# Altium footprint library relay.PCBLIB: 291 footprints (part 2 of 19)
Each footprint in its own frame and in the unit in brackets; x right, y up, seen from the top. Pads: shape width x height; smd on the part's side, far side on the other; paste and mask are expansions set on the pad; w line width, h text height; cw(c..) or ccw(c..) is an arc to the next point about the centre after c.
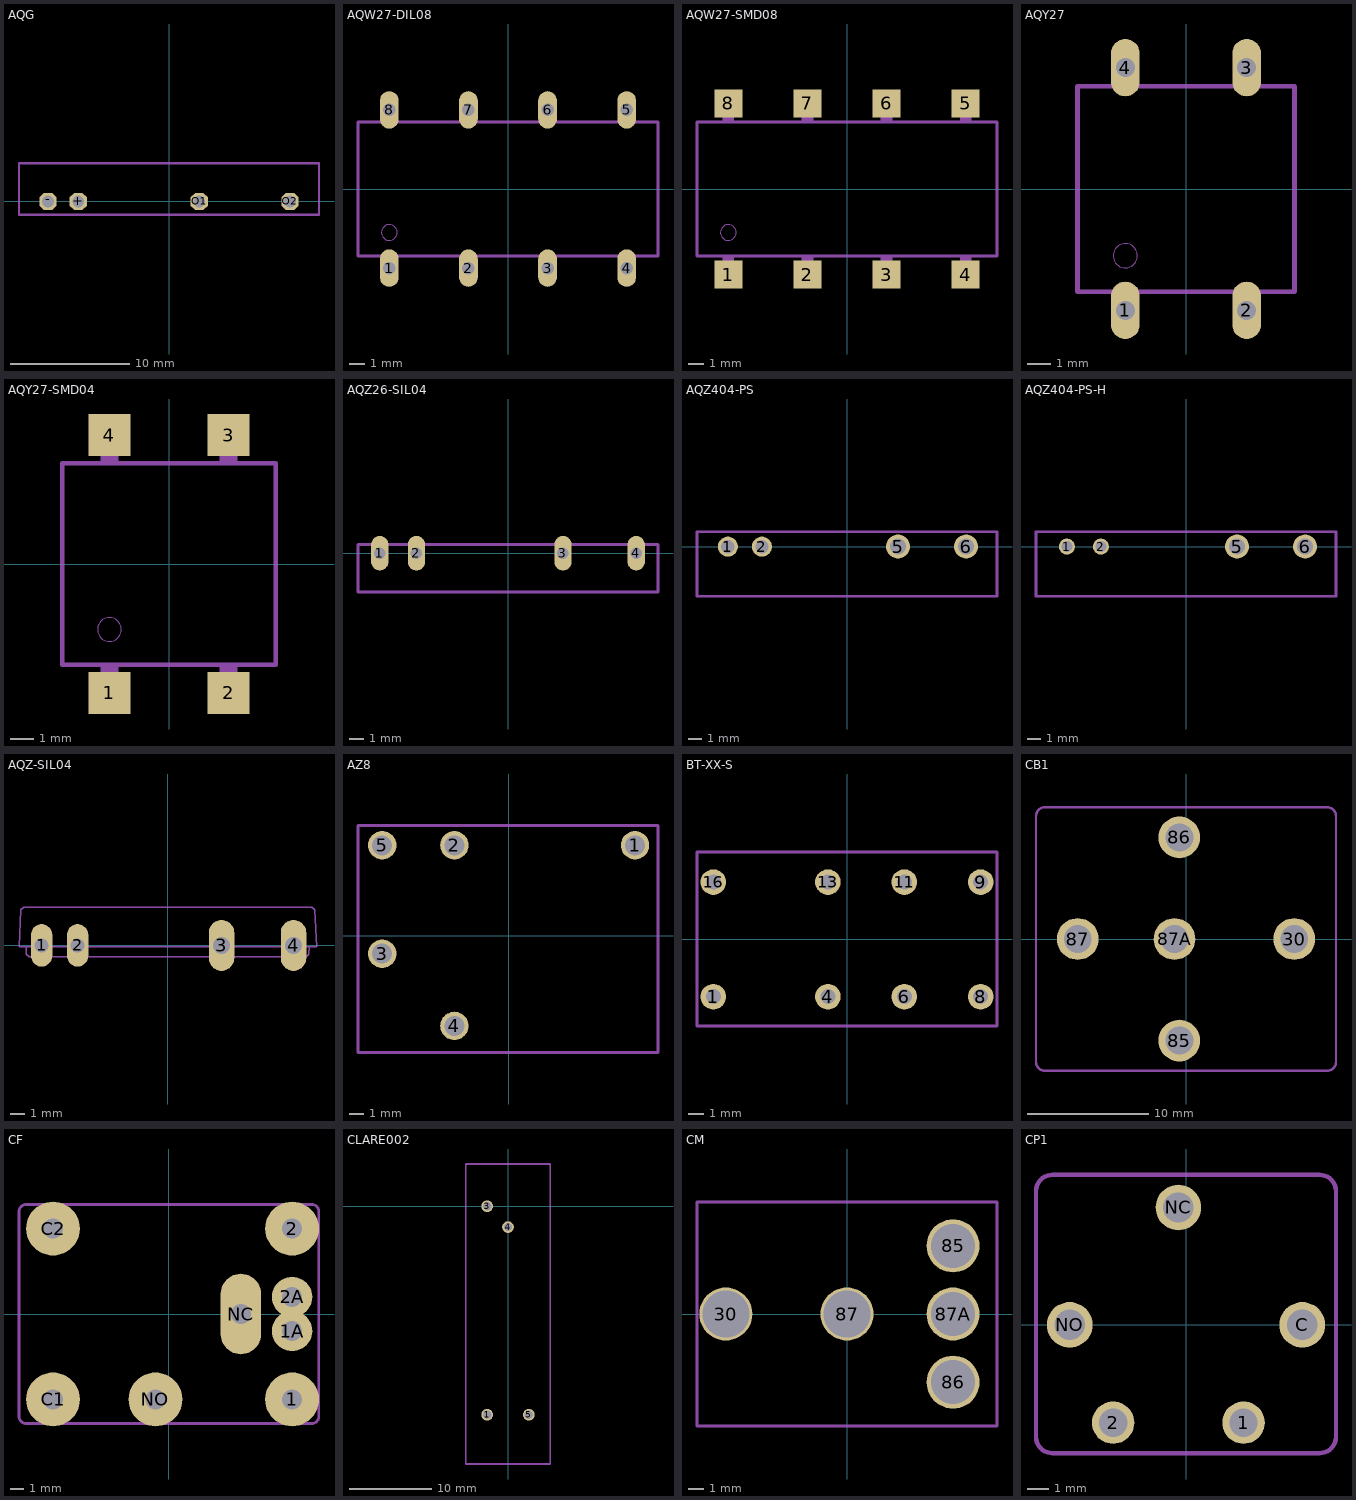
[diagram p1: the footprints below, top view; thin cyan lines are the x and y axes]

## AQG [mm]
pads (4):
  oct 1.452x1.452 hole 1: +(-7.62,0) -(-10.16,0) O1(2.54,0) O2(10.16,0)
Mechanical 2:
  lines w0.203: -12.6,-1.1 12.6,-1.1 12.6,3.2 -12.6,3.2 -12.6,-1.1

## AQW27-DIL08 [mil]
pads (8):
  oval 47.25x94.5 hole 31.5: 1(-300,-200) 2(-100,-200) 3(100,-200) 4(300,-200) 5(300,200) 6(100,200) 7(-100,200) 8(-300,200)
Mechanical 2:
  circle w0: c-300,-110 r20
  lines w8: -330,-169.29 -379.13,-169.29 -379.13,169.29 -330,169.29 ; -270,-169.29 -130,-169.29 ; -270,169.29 -130,169.29 ; -70,-169.29 70,-169.29 ; -70,169.29 70,169.29 ; 130,-169.29 270,-169.29 ; 130,169.29 270,169.29 ; 330,-169.29 379.13,-169.29 379.13,169.29 330,169.29
Mechanical 18:
  rectangle: 285,-200 315,-180
  rectangle: 85,-200 115,-180
  rectangle: -315,-200 -285,-170
  rectangle: -115,-200 -85,-170
  rectangle: 85,-200 115,-170
  rectangle: 285,-200 315,-170
  rectangle: -315,180 -285,200
  rectangle: -115,180 -85,200
  rectangle: 285,170 315,200
  rectangle: 85,170 115,200
  rectangle: -115,170 -85,200
  rectangle: -315,170 -285,200
  lines w8: -330,-169.29 -270,-169.29 ; -330,169.29 -270,169.29 ; -130,-169.29 -70,-169.29 ; -130,169.29 -70,169.29 ; 70,-169.29 130,-169.29 ; 70,169.29 130,169.29 ; 270,-169.29 330,-169.29 ; 270,169.29 330,169.29

## AQW27-SMD08 [mil]
pads (8):
  rect 70.87x70.87 smd: 1(-300,-216.54) 2(-100,-216.54) 3(100,-216.54) 4(300,-216.54) 5(300,216.54) 6(100,216.54) 7(-100,216.54) 8(-300,216.54)
Mechanical 2:
  circle w0: c-300,-110 r20
  lines w8: -330,-169.29 -379.13,-169.29 -379.13,169.29 -330,169.29 ; -270,-169.29 -130,-169.29 ; -270,169.29 -130,169.29 ; -70,-169.29 70,-169.29 ; -70,169.29 70,169.29 ; 130,-169.29 270,-169.29 ; 130,169.29 270,169.29 ; 330,-169.29 379.13,-169.29 379.13,169.29 330,169.29
Mechanical 18:
  rectangle: -115,-215 -85,-170
  rectangle: -315,-215 -285,-170
  rectangle: 285,-215 315,-170
  rectangle: 85,-215 115,-170
  rectangle: 85,170 115,215
  rectangle: 285,170 315,215
  rectangle: -315,170 -285,215
  rectangle: -115,170 -85,215
  lines w8: -330,-169.29 -270,-169.29 ; -330,169.29 -270,169.29 ; -130,-169.29 -70,-169.29 ; -130,169.29 -70,169.29 ; 70,-169.29 130,-169.29 ; 70,169.29 130,169.29 ; 270,-169.29 330,-169.29 ; 270,169.29 330,169.29

## AQY27 [mil]
pads (4):
  oval 47.25x94.5 hole 31.5: 1(-100,-200) 2(100,-200) 3(100,200) 4(-100,200)
Mechanical 2:
  circle w0: c-100,-110 r20
  lines w8: -130,-169.29 -179.13,-169.29 -179.13,169.29 -130,169.29 ; -70,-169.29 70,-169.29 ; -70,169.29 70,169.29 ; 130,-169.29 179.13,-169.29 179.13,169.29 130,169.29
Mechanical 18:
  rectangle: -115,180 -85,200
  rectangle: 85,180 115,200
  rectangle: 85,-200 115,-180
  rectangle: -115,-200 -85,-180
  lines w8: -130,-169.29 -70,-169.29 ; -130,169.29 -70,169.29 ; 70,-169.29 130,-169.29 ; 70,169.29 130,169.29

## AQY27-SMD04 [mil]
pads (4):
  rect 70.87x70.87 smd: 1(-100,-216.54) 2(100,-216.54) 3(100,216.54) 4(-100,216.54)
Mechanical 2:
  circle w0: c-100,-110 r20
  lines w8: -130,-169.29 -179.13,-169.29 -179.13,169.29 -130,169.29 ; -70,-169.29 70,-169.29 ; -70,169.29 70,169.29 ; 130,-169.29 179.13,-169.29 179.13,169.29 130,169.29
Mechanical 18:
  rectangle: -115,170 -85,215
  rectangle: 85,170 115,215
  rectangle: 85,-215 115,-170
  rectangle: -115,-215 -85,-170
  lines w8: -130,-169.29 -70,-169.29 ; -130,169.29 -70,169.29 ; 70,-169.29 130,-169.29 ; 70,169.29 130,169.29

## AQZ26-SIL04 [mil]
pads (4):
  oval 47.25x94.5 hole 31.5: 1(-350,0) 2(-250,0) 3(150,0) 4(350,0)
Mechanical 2:
  lines w8: -383.86,23.62 -409.45,23.62 -409.45,-106.3 409.45,-106.3 409.45,23.62 383.86,23.62 ; -316.93,23.62 -283.46,23.62 ; -216.54,23.62 116.14,23.62 ; 183.07,23.62 316.93,23.62
Mechanical 18:
  lines w8: -383.86,23.62 -316.93,23.62 ; -283.46,23.62 -216.54,23.62 ; 116.14,23.62 183.07,23.62 ; 316.93,23.62 383.86,23.62

## AQZ404-PS [mm]
pads (4):
  round 1.5 hole 1: 1(-8.89,0) 2(-6.35,0)
  round 1.8 hole 1.2: 5(3.81,0) 6(8.89,0)
Mechanical 2:
  lines w0.203: -11.2,-3.7 11.2,-3.7 11.2,1.1 -11.2,1.1 -11.2,-3.7

## AQZ404-PS-H [mil]
pads (4):
  round 47.25 hole 31.5: 1(-350,0) 2(-250,0)
  round 70.86 hole 47.24: 5(150,0) 6(350,0)
Mechanical 2:
  lines w8: -440.94,-145.67 440.94,-145.67 440.94,43.31 -440.94,43.31 -440.94,-145.67

## AQZ-SIL04 [mm]
pads (4):
  oval 1.5x3 hole 1: 1(-8.89,0) 2(-6.35,0)
  oval 1.8x3.6 hole 1.2: 3(3.81,0) 4(8.89,0)
Mechanical 2:
  lines w0.102: -9.99,-0.094 -9.963,-0.609 -9.763,-0.799 ; -9.797,-0.094 -10.49,-0.094 -10.353,2.512 -10.154,2.701 10.187,2.701 10.387,2.512 10.523,-0.094 9.83,-0.094 ; -8.112,-0.799 -7.108,-0.799 ; -7.95,-0.094 -7.13,-0.094 ; -5.445,-0.799 2.798,-0.799 ; -5.41,-0.094 2.776,-0.094 ; 4.842,-0.799 7.878,-0.799 ; 4.877,-0.094 7.856,-0.094 ; 9.783,-0.799 9.983,-0.609 10.01,-0.094
Mechanical 18:
  lines w0.102: -10.49,-0.094 10.523,-0.094 ; -9.763,-0.799 9.783,-0.799

## AZ8 [mm]
pads (5):
  round 2 hole 1.4: 1(8.89,6.35) 2(-3.81,6.35) 3(-8.89,-1.27) 4(-3.81,-6.35) 5(-8.89,6.35)
Mechanical 2:
  lines w0.203: -10.59,-8.227 10.507,-8.227 ; -10.59,-8.225 -10.59,7.75 10.507,7.75 10.507,-8.225

## BT-XX-S [mm]
pads (8):
  round 1.7 hole 1: 1(-8.89,-3.81) 4(-1.27,-3.81) 6(3.81,-3.81) 8(8.89,-3.81) 9(8.89,3.81) 11(3.81,3.81) 13(-1.27,3.81) 16(-8.89,3.81)
Mechanical 2:
  lines w0.203: -9.975,-5.775 9.975,-5.775 9.975,5.825 -9.975,5.825 -9.975,-5.775

## CB1 [mil]
pads (5):
  round 135.82 hole 90.55: 30(352.36,0) 85(-21.65,-330.71) 86(-21.65,330.71) 87(-352.36,0) 87A(-37.4,0)
Mechanical 2:
  lines w8: -488.19,-399.61 -488.19,399.61 cw(c-458.67,399.61) -458.66,429.13 458.66,429.13 cw(c458.67,399.61) 488.19,399.61 488.19,-399.61 cw(c458.67,-399.61) 458.66,-429.13 -458.66,-429.13 cw(c-458.67,-399.61) -488.19,-399.61

## CF [mm]
pads (8):
  round 4 hole 1.5: 1(9.16,-6.35) 2(9.16,6.35) C1(-8.62,-6.35) C2(-8.62,6.35) NO(-1,-6.35)
  round 3 hole 1.5: 1A(9.16,-1.27) 2A(9.16,1.27)
  oval 3x6 hole 1.5: NC(5.35,0)
Mechanical 2:
  lines w0.203: -11.15,-7.6 -11.15,7.6 cw(c-10.6,7.6) -10.6,8.15 10.6,8.15 cw(c10.6,7.6) 11.15,7.6 11.15,-7.6 cw(c10.6,-7.6) 10.6,-8.15 -10.6,-8.15 cw(c-10.6,-7.6) -11.15,-7.6

## CLARE002 [mil]
pads (4):
  round 56 hole 39.37: 1(-100,-1000) 3(-100,0) 4(0,-100) 5(100,-1000)
Mechanical 2:
  lines w8: -202.76,-1236.22 202.76,-1236.22 202.76,202.76 -202.76,202.76 -202.76,-1236.22

## CM [mm]
pads (5):
  round 3.5 hole 3.1: 30(-8,0) 87(0,0)
  round 3.5 hole 2.9: 85(7,4.5) 86(7,-4.5) 87A(7,0)
Mechanical 2:
  lines w0.203: -9.9,-7.4 9.9,-7.4 9.9,7.4 -9.9,7.4 -9.9,-7.4

## CP1 [mm]
pads (5):
  round 1.95 hole 1.3: 1(2.65,-4.5) 2(-3.35,-4.5)
  round 2.1 hole 1.4: C(5.35,0) NC(-0.35,5.4) NO(-5.35,0)
Mechanical 2:
  lines w0.203: -6.9,-5.15 -6.9,6.15 cw(c-6.15,6.15) -6.15,6.9 6.15,6.9 cw(c6.15,6.15) 6.9,6.15 6.9,-5.15 cw(c6.15,-5.15) 6.15,-5.9 -6.15,-5.9 cw(c-6.15,-5.15) -6.9,-5.15